# EAGLE library part TEENSY_4.1_SMT (library HyTechDevices)
Teensy 4.1 without VBAT Datasheet <https://www.pjrc.com/store/teensy41.html#pins> Requires ordering of: 2: 24 pin, 0.1" pitch SMT female headers
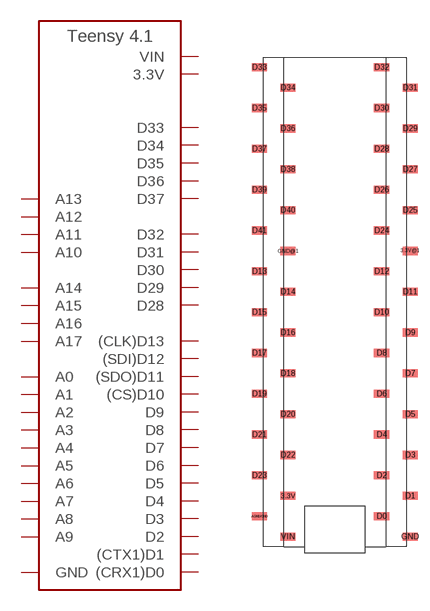
[diagram p61: symbol with the pads of TEENSY_LONG_SSM; footprint TEENSY_LONG_SSM]

Designator prefix A

## TEENSY_4.1_SMT (TEENSY: 4.1)  [TEENSY_LONG_SSM]
3.3V  3.3V  pwr
3.3V@1  3.3V  pwr
AGND/GND  GND
D0  (CRX1)D0
D1  (CTX1)D1
D2  D2
D3  D3
D4  D4
D5  D5
D6  D6
D7  D7
D8  D8
D9  D9
D10  (CS)D10
D11  (SDO)D11
D12  (SDI)D12
D13  (CLK)D13
D14  A0
D15  A1
D16  A2
D17  A3
D18  A4
D19  A5
D20  A6
D21  A7
D22  A8
D23  A9
D24  A10
D25  A11
D26  A12
D27  A13
D28  D28
D29  D29
D30  D30
D31  D31
D32  D32
D33  D33
D34  D34
D35  D35
D36  D36
D37  D37
D38  A14
D39  A15
D40  A16
D41  A17
GND  GND
GND@1  GND
VIN  VIN  pwr

## Footprint TEENSY_LONG_SSM (pad centres in mm)
two SSM-124 placed on Teensy Datasheet <http://suddendocs.samtec.com/catalog_english/ssm_sm.pdf> Teensy 3.5/4.1 Footprint Extended Teensy 3.5 <https://www.pjrc.com/store/teensy35.html> Teensy 4.1 <https://www.pjrc.com/store/teensy41.html>
smd 1.905 x 1.02: 3.3V -5.842,-24.13; 3.3V@1 9.398,6.35; AGND/GND -9.398,-26.67; D0 5.842,-26.67; D1 9.398,-24.13; D2 5.842,-21.59; D3 9.398,-19.05; D4 5.842,-16.51; D5 9.398,-13.97; D6 5.842,-11.43; D7 9.398,-8.89; D8 5.842,-6.35; D9 9.398,-3.81; D10 5.842,-1.27; D11 9.398,1.27; D12 5.842,3.81; D13 -9.398,3.81; D14 -5.842,1.27; D15 -9.398,-1.27; D16 -5.842,-3.81; D17 -9.398,-6.35; D18 -5.842,-8.89; D19 -9.398,-11.43; D20 -5.842,-13.97; D21 -9.398,-16.51; D22 -5.842,-19.05; D23 -9.398,-21.59; D24 5.842,8.89; D25 9.398,11.43; D26 5.842,13.97; D27 9.398,16.51; D28 5.842,19.05; D29 9.398,21.59; D30 5.842,24.13; D31 9.398,26.67; D32 5.842,29.21; D33 -9.398,29.21; D34 -5.842,26.67; D35 -9.398,24.13; D36 -5.842,21.59; D37 -9.398,19.05; D38 -5.842,16.51; D39 -9.398,13.97; D40 -5.842,11.43; D41 -9.398,8.89; GND 9.398,-29.21; GND@1 -5.842,6.35; VIN -5.842,-29.21